# Altium integrated library Regulators$.IntLib: 19 symbols
Pins are listed as number, name and electrical type; pins without a type are passive.

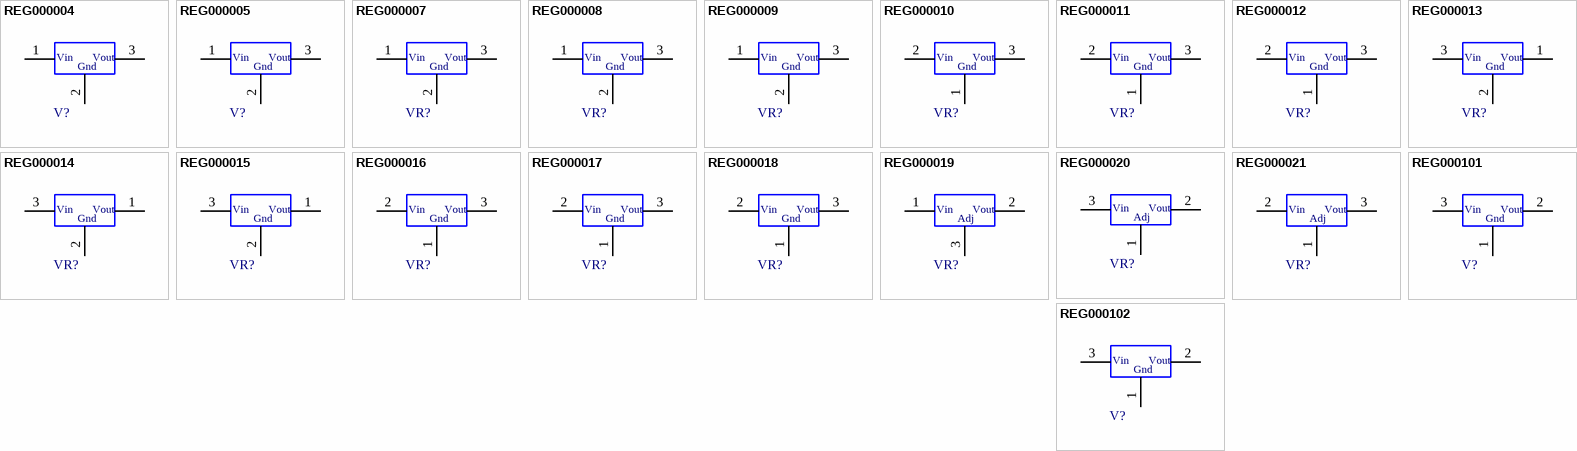
[diagram p0: symbols REG000004 to REG000102]

## REG000004
designator V?, comment LE33CZ  (value not drawn)
IC REG 3.3V LDO TO92TH; Manufactuer: ST Microelectronics; UoA Stock#: REG000004; Assembly Method: Through hole; Voltage/Current: 3.3V/100mA; Item Type: Item; Path: ece/ts/Lists/Stock Inventory; Value: LE33CZ; Size/Package: TO92; Manufacturer-PN: LE33CZ; Datasheet Link: http://share.engineering.auckland.ac.nz/ece/ts/Student%20Documents/LE33CZ.pdf; Supplier1: Active COmponents; Supplier1-PN: LE33CZ; Supplier2: Element14; Supplier2-PN: 9755349; Category: Regulator; Status: Active
footprint ECE-REG-LE-TO-92
pins: 1 Vin, 2 Gnd, 3 Vout

## REG000005
designator V?, comment LE50  (value not drawn)
IC REG 5V LDO TO92TH; Manufactuer: ST Microlectectronics; Manufacturer-PN: LE50CZ; UoA Stock#: REG000005; Assembly Method: Through hole; Voltage/Current: 5V/100mA; Item Type: Item; Path: ece/ts/Lists/Stock Inventory; Value: LE50; Size/Package: TO92; Datasheet Link: http://share.engineering.auckland.ac.nz/ece/ts/Student%20Documents/LE50CZ.pdf; Supplier1: Active Components; Supplier1-PN: LE50CZ; Supplier2: Element14; Supplier2-PN: 9755357; Category: Regulator; Status: Active
footprint ECE-REG-LE-TO-92
pins: 1 Vin, 2 Gnd, 3 Vout

## REG000007
designator VR?, comment L7805CV  (value not drawn)
REG POSITIVE 5V TO220; Manufactuer: ST Microelectronics; UoA Stock#: REG000007; Assembly Method: Through hole; Voltage/Current: 5V/1.5A; Item Type: Item; Path: ece/ts/Lists/Stock Inventory; Value: L7805CV; Size/Package: TO220; Manufacturer-PN: L7805CV; Supplier1: Digikey; Supplier1-PN: 497-1443-5-ND; Category: Regulator; Status: Active
footprint ECE-TO220ABTH
pins: 1 Vin, 2 Gnd, 3 Vout

## REG000008
designator VR?, comment L7812CV  (value not drawn)
REG POSITIVE 12V TO220; Manufactuer: ST Microelectronics; UoA Stock#: REG000008; Assembly Method: Through hole; Voltage/Current: 12V/1.5A; Item Type: Item; Path: ece/ts/Lists/Stock Inventory; Value: L7812CV; Size/Package: TO220; Manufacturer-PN: L7812CV; Supplier1: Digikey; Supplier1-PN: 497-1452-5-ND; Category: Regulator; Status: Active
footprint ECE-TO220ABTH
pins: 1 Vin, 2 Gnd, 3 Vout

## REG000009
designator VR?, comment L7815CV  (value not drawn)
REG POSITIVE 15VTO220; Manufactuer: ST Microelectronics; UoA Stock#: REG000009; Assembly Method: Through hole; Voltage/Current: 15V/1.5A; Item Type: Item; Path: ece/ts/Lists/Stock Inventory; Value: L7815CV; Size/Package: TO220; Manufacturer-PN: L7815CV; Supplier1: Digikey; Supplier1-PN: 497-1454-5-ND; Category: Regulator; Status: Active
footprint ECE-TO220ABTH
pins: 1 Vin, 2 Gnd, 3 Vout

## REG000010
designator VR?, comment L7905CV  (value not drawn)
REG NEGATIVE 5V TO220; Manufactuer: ST Microelectronics; UoA Stock#: REG000010; Assembly Method: Through hole; Voltage/Current: -5V/1.5A; Item Type: Item; Path: ece/ts/Lists/Stock Inventory; Value: L7905CV; Size/Package: TO220; Manufacturer-PN: L7905CV; Supplier1: Digikey; Supplier1-PN: 497-1472-5-ND; Category: Regulator; Status: Active
footprint ECE-TO220ABTH
pins: 1 Gnd, 2 Vin, 3 Vout

## REG000011
designator VR?, comment L7912CV  (value not drawn)
REG NEGATIVE 12V TO220; Manufactuer: ST Microelectronics; UoA Stock#: REG000011; Assembly Method: Through hole; Voltage/Current: -12V/1.5A; Item Type: Item; Path: ece/ts/Lists/Stock Inventory; Value: L7912CV; Size/Package: TO220; Manufacturer-PN: L7912CV; Supplier1: Digikey; Supplier1-PN: 497-1476-5-ND; Category: Regulator; Status: Active
footprint ECE-TO220ABTH
pins: 1 Gnd, 2 Vin, 3 Vout

## REG000012
designator VR?, comment L7915CV  (value not drawn)
REG NEGATIVE 15V TO220; Manufactuer: ST Microelectronics; Manufacturer-PN: L7912CV; UoA Stock#: REG000012; Assembly Method: Through hole; Voltage/Current: -15V/1.5A; Item Type: Item; Path: ece/ts/Lists/Stock Inventory; Value: L7915CV; Size/Package: TO220; Supplier1: Digikey; Supplier1-PN: 497-1478-5-ND; Category: Regulator; Status: Active
footprint ECE-TO220ABTH
pins: 1 Gnd, 2 Vin, 3 Vout

## REG000013
designator VR?, comment L78L05ACZ  (value not drawn)
REG POS 5V TO92; Manufactuer: ST Microelectronics; UoA Stock#: REG000013; Assembly Method: Through hole; Voltage/Current: 5V/0.1A; Item Type: Item; Path: ece/ts/Lists/Stock Inventory; Value: L78L05ACZ; Size/Package: TO92; Manufacturer-PN: L78L05ACZ; Supplier1: Element14; Supplier1-PN: 1467763; Category: Regulator; Status: Active
footprint ECE-TO-92TH
pins: 1 Vout, 2 Gnd, 3 Vin

## REG000014
designator VR?, comment L78L12ACZ-TR  (value not drawn)
REG POS 12V TO92; Manufactuer: ST Microelectronics; UoA Stock#: REG000014; Assembly Method: Through hole; Voltage/Current: 12V/0.1A; Item Type: Item; Path: ece/ts/Lists/Stock Inventory; Value: L78L12ACZ-TR; Size/Package: TO92; Manufacturer-PN: L78L12ACZ-TR; Supplier1: Element14; Supplier1-PN: 1261385; Category: Regulator; Status: Active
footprint ECE-TO-92TH
pins: 1 Vout, 2 Gnd, 3 Vin

## REG000015
designator VR?, comment 78L15  (value not drawn)
REG POS 15V TO92; Manufactuer: Multicomp; UoA Stock#: REG000015; Assembly Method: Through hole; Voltage/Current: 15V/0.1A; Item Type: Item; Path: ece/ts/Lists/Stock Inventory; Value: 78L15; Size/Package: TO92; Manufacturer-PN: 78L15; Supplier1: Element14; Supplier1-PN: 4642557; Category: Regulator; Status: Active
footprint ECE-TO-92TH
pins: 1 Vout, 2 Gnd, 3 Vin

## REG000016
designator VR?, comment L79L05ACZ.  (value not drawn)
REG NEG 5V TO92; Manufactuer: ST Microlectectronics; UoA Stock#: REG000016; Assembly Method: Through hole; Voltage/Current: -5V/0.1A; Item Type: Item; Path: ece/ts/Lists/Stock Inventory; Value: L79L05ACZ.; Size/Package: TO92; Manufacturer-PN: L79L05ACZ.; Supplier1: Element14; Supplier1-PN: 1261235; Category: Regulator; Status: Active
footprint ECE-TO-92TH
pins: 1 Gnd, 2 Vin, 3 Vout

## REG000017
designator VR?, comment MC79L12ABPG  (value not drawn)
REG NEG 12V TO92; Manufactuer: On semiconductor; UoA Stock#: REG000017; Assembly Method: Through hole; Voltage/Current: -12V/0.1A; Item Type: Item; Path: ece/ts/Lists/Stock Inventory; Value: MC79L12ABPG; Size/Package: TO92; Manufacturer-PN: MC79L12ABPG; Supplier1: Element14; Supplier1-PN: 2532899; Category: Regulator; Status: Active
footprint ECE-TO-92TH
pins: 1 Gnd, 2 Vin, 3 Vout

## REG000018
designator VR?, comment 79L15  (value not drawn)
REG NEG 15V TO92; Manufactuer: Multicomp; UoA Stock#: REG000018; Assembly Method: Through hole; Voltage/Current: -15V/0.1A; Item Type: Item; Path: ece/ts/Lists/Stock Inventory; Value: 79L15; Size/Package: TO92; Manufacturer-PN: 79L15; Supplier1: Element14; Supplier1-PN: 4642582; Category: Regulator; Status: Active
footprint ECE-TO-92TH
pins: 1 Gnd, 2 Vin, 3 Vout

## REG000019
designator VR?, comment LM317LZ.  (value not drawn)
REG TO92 LM317; Manufactuer: Fairchild semiconductor; UoA Stock#: REG000019; Assembly Method: Through hole; Voltage/Current: Adj/01A; Item Type: Item; Path: ece/ts/Lists/Stock Inventory; Value: LM317LZ.; Size/Package: TO92; Manufacturer-PN: LM317LZ.; Supplier1: Element14; Supplier1-PN: 1609393; Category: Regulator; Status: Active
footprint ECE-TO-92TH
pins: 1 Vin, 2 Vout, 3 Adj

## REG000020
designator VR?, comment LM317T*  (value not drawn)
REG POS ADJ LM317 TO220; Manufactuer: Fairchild semiconductor; UoA Stock#: REG000020; Assembly Method: Through hole; Voltage/Current: Adj/1.5A; Item Type: Item; Path: ece/ts/Lists/Stock Inventory; Value: LM317T*; Size/Package: TO220; Manufacturer-PN: LM317T*; Supplier1: Element14; Supplier1-PN: 1340605; Category: Regulator; Status: Active
footprint ECE-TO220ABTH
pins: 1 Adj, 2 Vout, 3 Vin

## REG000021
designator VR?, comment LM337T  (value not drawn)
REG NEG ADJ LM337 TO220; Manufactuer: Texas instruments; UoA Stock#: REG000021; Assembly Method: Through hole; Voltage/Current: Adj/1.5A; Item Type: Item; Path: ece/ts/Lists/Stock Inventory; Value: LM337T; Size/Package: TO220; Manufacturer-PN: LM337T; Supplier1: Element14; Supplier1-PN: 9489401; Category: Regulator; Status: Active
footprint ECE-TO220ABTH
pins: 1 Gnd, 2 Vin, 3 Vout
text: Adj

## REG000101
designator V?, comment LD1117S33CTR  (value not drawn)
IC REG LDO 3.3V 0.8A SOT223SM; Manufactuer: STMicroelctronics; UoA Stock#: REG000101; Assembly Method: Surface Mount; Voltage/Current: 3.3V/800mA; Item Type: Item; Path: ece/ts/Lists/Stock Inventory; Value: LD1117S33CTR; Size/Package: SOT223; Manufacturer-PN: LD1117S33CTR; Datasheet Link: http://share.engineering.auckland.ac.nz/ece/ts/Student%20Documents/LD1117.pdf; Supplier1: Digikey; Supplier1-PN: 497-1241-6-ND; Component Type: REG-SOT223-LD3.3; Category: Regulator; Status: Active
footprint ECE-SOT223L (SOT223/SC73, 4-Leads, Body 6.5x3.5mm, Pitch 2.3mm, Lead Span 7mm, IPC Low Density)
footprint ECE-SOT223SM
pins: 1 Gnd, 2 Vout, 3 Vin

## REG000102
designator V?, comment LD1117S50CTR  (value not drawn)
IC REG LDO 5V 0.8A SOT223SM; Manufactuer: STMicroelectronics; UoA Stock#: REG000102; Value: LD1117S33CTR; Assembly Method: Surface Mount; Voltage/Current: 5V/800mA; Item Type: Item; Path: ece/ts/Lists/Stock Inventory; Size/Package: SOT223; Manufacturer-PN: LD1117S50CTR; Datasheet Link: http://share.engineering.auckland.ac.nz/ece/ts/Student%20Documents/LD1117.pdf; Supplier1: Digikey; Supplier1-PN: 497-1243-6-ND; Component Type: REG-SOT223-LD5V; Category: Regulator; Status: Active
footprint ECE-SOT223L (SOT223/SC73, 4-Leads, Body 6.5x3.5mm, Pitch 2.3mm, Lead Span 7mm, IPC Low Density)
footprint ECE-SOT223SM
pins: 1 Gnd, 2 Vout, 3 Vin